# Altium footprint library ON Semiconductor.PcbLib: 1 footprints
Each footprint in its own frame and in the unit in brackets; x right, y up, seen from the top. Pads: shape width x height; smd on the part's side, far side on the other; paste and mask are expansions set on the pad; w line width, h text height; cw(c..) or ccw(c..) is an arc to the next point about the centre after c.
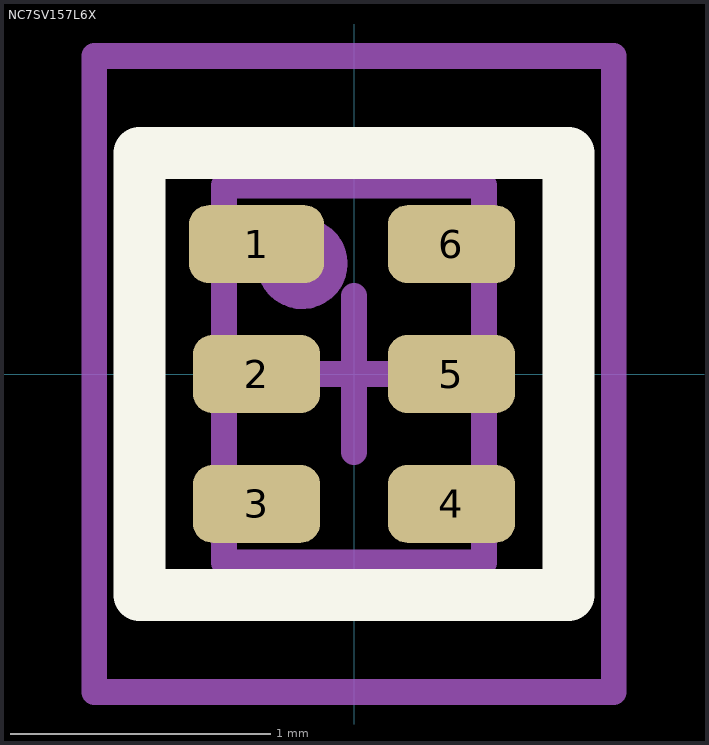
[diagram p0: the footprint, top view; thin cyan lines are the x and y axes]

## NC7SV157L6X [mm] "2-Input  Non-Inverting Multiplexer"
height 0.5
pads (6):
  rrect50% 0.52x0.3 smd: 1(-0.375,0.5)
  rrect50% 0.49x0.3 smd: 2(-0.375,0) 3(-0.375,-0.5) 4(0.375,-0.5) 5(0.375,0) 6(0.375,0.5)
Top Overlay:
  lines w0.2: -0.825,-0.85 -0.825,0.85 0.825,0.85 0.825,-0.85 -0.825,-0.85
3D Top:
  circle w0.1: c-0.2,0.425 r0.125
  lines w0.1: -0.5,-0.725 0.5,-0.725 0.5,0.725 -0.5,0.725 -0.5,-0.725
Courtyard Top:
  lines w0.1: -0.3,0 0.3,0 ; 0,-0.3 0,0.3 ; -1,-1.225 -1,1.225 1,1.225 1,-1.225 -1,-1.225
3D body: height 0.55, standoff 0.5, extent -0.399,0.425 -0.2,0.625
3D body: height 0.5, standoff 0, extent -0.5,-0.725 0.5,0.725